# Altium footprint library mypcblib.PcbLib: 128 footprints (part 5 of 8)
Each footprint in its own frame and in the unit in brackets; x right, y up, seen from the top. Pads: shape width x height; smd on the part's side, far side on the other; paste and mask are expansions set on the pad; w line width, h text height; cw(c..) or ccw(c..) is an arc to the next point about the centre after c.
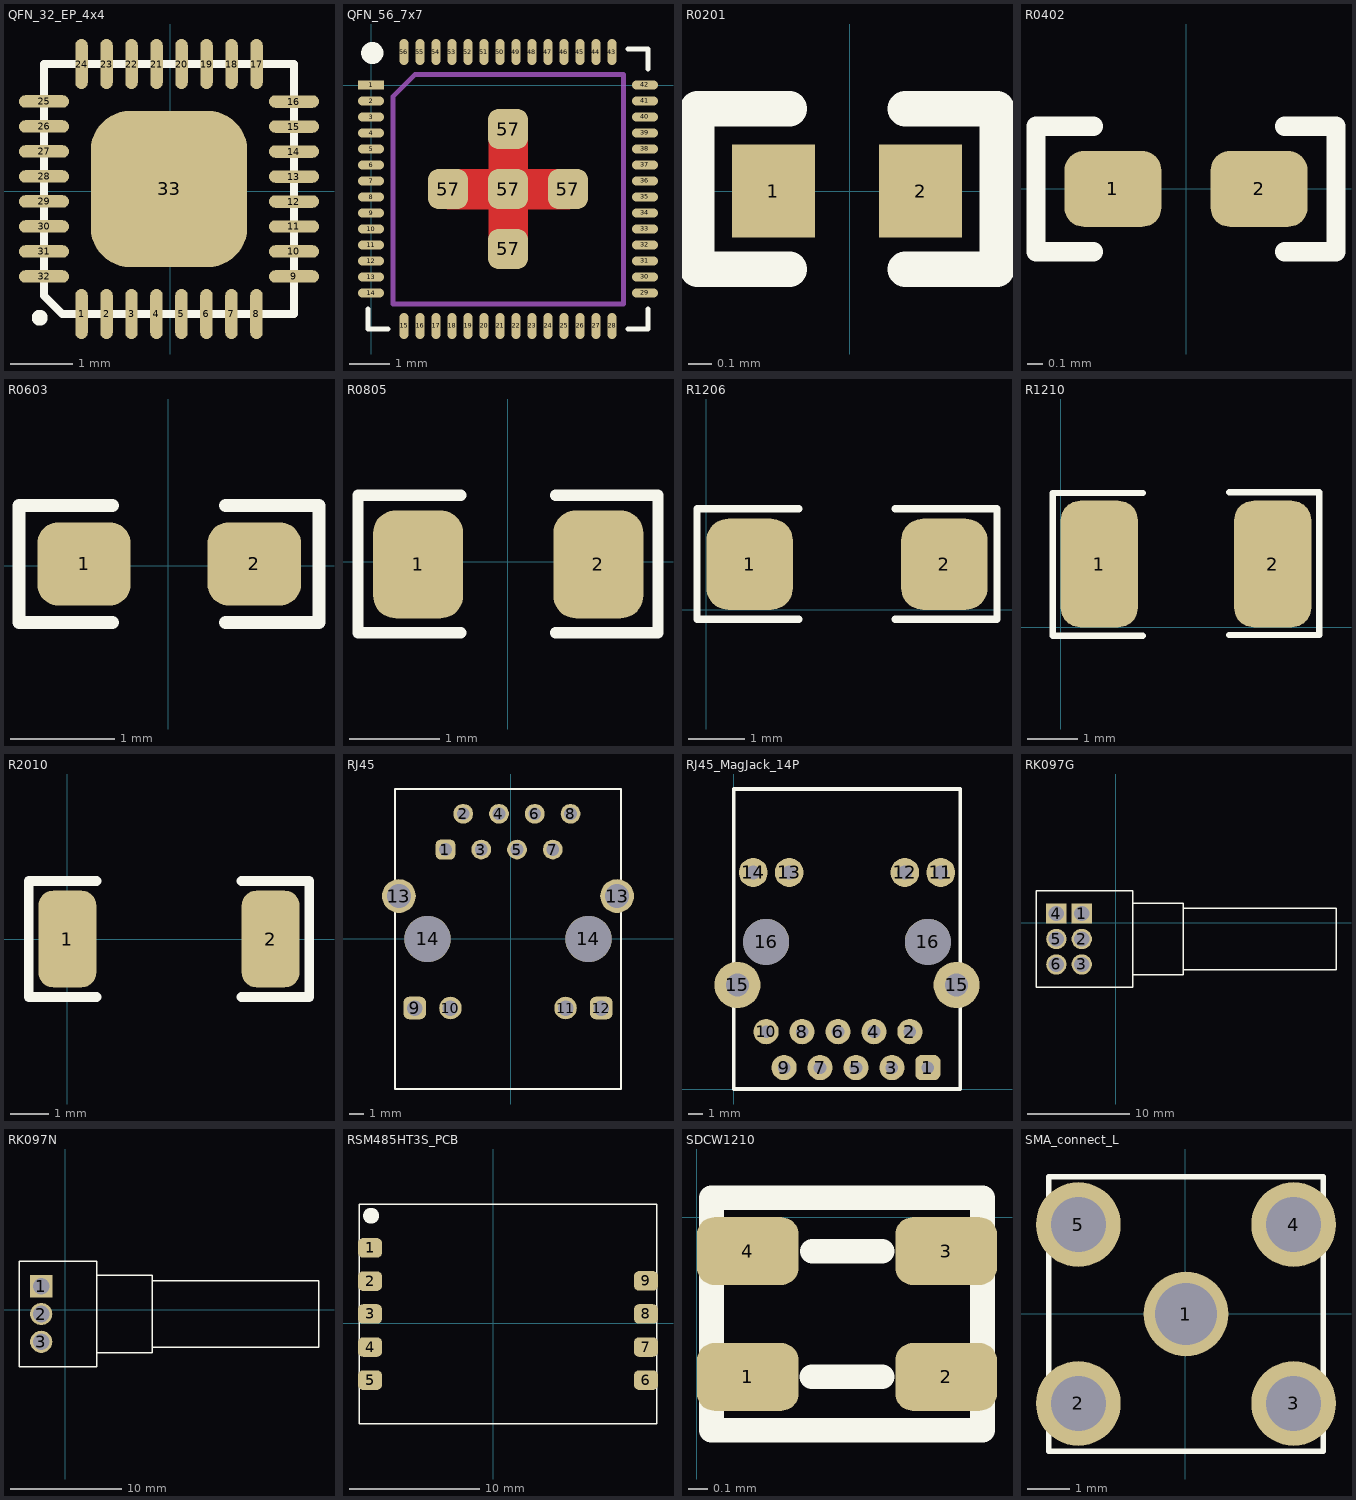
[diagram p4: the footprints below, top view; thin cyan lines are the x and y axes]

## QFN_32_EP_4x4 [mm]
pads (33):
  oval 0.2x0.8 smd mask+0.051: 1(-1.422,-1.96) 2(-1.022,-1.96) 3(-0.622,-1.96) 4(-0.222,-1.96) 5(0.178,-1.96) 6(0.578,-1.96) 7(0.978,-1.96) 8(1.378,-1.96) 17(1.378,2.04) 18(0.978,2.04) 19(0.578,2.04) 20(0.178,2.04) 21(-0.222,2.04) 22(-0.622,2.04) 23(-1.022,2.04) 24(-1.422,2.04)
  oval 0.8x0.2 smd mask+0.051: 9(1.978,-1.36) 10(1.978,-0.96) 11(1.978,-0.56) 12(1.978,-0.16) 13(1.978,0.24) 14(1.978,0.64) 15(1.978,1.04) 16(1.978,1.44) 25(-2.022,1.44) 26(-2.022,1.04) 27(-2.022,0.64) 28(-2.022,0.24) 29(-2.022,-0.16) 30(-2.022,-0.56) 31(-2.022,-0.96) 32(-2.022,-1.36)
  rrect50% 2.5x2.5 smd mask+0.127: 33(-0.022,0.04)
Top Overlay:
  circle w0.127: c-2.09,-2.02 r0.064
  lines w0.127: -2.022,-1.668 -1.73,-1.96 1.978,-1.96 1.978,2.04 -2.022,2.04 -2.022,-1.668

## QFN_56_7x7 [mm]
pads (61):
  rect 0.65x0.22 smd mask+0.051: 1(0,0)
  oval 0.65x0.22 smd mask+0.051: 2(0,-0.4) 3(0,-0.8) 4(0,-1.2) 5(0,-1.6) 6(0,-2) 7(0,-2.4) 8(0,-2.8) 9(0,-3.2) 10(0,-3.6) 11(0,-4) 12(0,-4.4) 13(0,-4.8) 14(0,-5.2) 29(6.85,-5.2) 30(6.85,-4.8) 31(6.85,-4.4) 32(6.85,-4) 33(6.85,-3.6) 34(6.85,-3.2) 35(6.85,-2.8) 36(6.85,-2.4) 37(6.85,-2) 38(6.85,-1.6) 39(6.85,-1.2) 40(6.85,-0.8) 41(6.85,-0.4) 42(6.85,0)
  oval 0.22x0.65 smd mask+0.051: 15(0.825,-6.025) 16(1.225,-6.025) 17(1.625,-6.025) 18(2.025,-6.025) 19(2.425,-6.025) 20(2.825,-6.025) 21(3.225,-6.025) 22(3.625,-6.025) 23(4.025,-6.025) 24(4.425,-6.025) 25(4.825,-6.025) 26(5.225,-6.025) 27(5.625,-6.025) 28(6.025,-6.025) 43(6.025,0.825) 44(5.625,0.825) 45(5.225,0.825) 46(4.825,0.825) 47(4.425,0.825) 48(4.025,0.825) 49(3.625,0.825) 50(3.225,0.825) 51(2.825,0.825) 52(2.425,0.825) 53(2.025,0.825) 54(1.625,0.825) 55(1.225,0.825) 56(0.825,0.825)
  rrect50% 1x1 smd mask+0.152: 57(1.925,-2.6) 57(3.425,-4.1) 57(3.425,-2.6) 57(3.425,-1.1) 57(4.925,-2.6)
Top Layer:
  rectangle: 1.891,-3.112 4.99,-2.096
  rectangle: 2.932,-4.128 3.923,-1.004
Top Overlay:
  circle w0.3: c0.032,0.8 r0.127
  lines w0.127: -0.075,-5.6 -0.075,-6.1 0.425,-6.1 ; 6.425,-6.1 6.925,-6.1 6.925,-5.6 ; 6.425,0.9 6.925,0.9 6.925,0.4
Mechanical 1:
  lines w0.127: 0.545,-5.474 6.311,-5.474 6.311,0.266 1.104,0.266 0.545,-0.292 0.545,-5.474

## R0201 [mm]
pads (2):
  rect 0.36x0.4 smd mask+0.051: 1(-0.33,0) 2(0.305,0)
Top Overlay:
  lines w0.152: -0.261,-0.338 -0.66,-0.338 -0.66,0.356 -0.261,0.356 ; 0.239,-0.338 0.635,-0.338 0.635,0.356 0.239,0.356
3D body "User Library-RES_0603-0201.STEP": height 0.34, standoff 0, extent -0.351,-0.173 0.329,0.157

## R0402 [mm]
pads (2):
  rrect50% 0.64x0.5 smd: 1(-0.483,0) 2(0.483,0)
Top Overlay:
  lines w0.127: -0.61,-0.415 -0.991,-0.415 -0.991,0.415 -0.61,0.415 ; 0.65,-0.415 0.991,-0.415 0.991,0.415 0.65,0.415
3D body "User Library-CR1005-0402.STEP": height 0.35, standoff 0, extent -0.5,-0.25 0.5,0.25

## R0603 [mm]
pads (2):
  rrect50% 0.9x0.8 smd: 1(-0.814,0.015) 2(0.826,0.015)
Top Overlay:
  lines w0.127: -0.54,-0.55 -1.44,-0.55 -1.44,0.58 -0.54,0.58 ; 0.55,-0.55 1.45,-0.55 1.45,0.58 0.55,0.58

## R0805 [mm]
pads (2):
  rrect50% 1x1.2 smd: 1(-0.993,-0.029) 2(1.007,-0.029)
Top Overlay:
  lines w0.127: -0.518,-0.79 -1.66,-0.79 -1.66,0.74 -0.518,0.74 ; 0.532,-0.79 1.67,-0.79 1.67,0.74 0.532,0.74

## R1206 [mm]
pads (2):
  rrect50% 1.52x1.6 smd: 1(0.76,0.8) 2(4.18,0.8)
Top Overlay:
  lines w0.127: 1.626,-0.165 -0.165,-0.165 -0.165,1.773 1.626,1.773 ; 3.315,-0.165 5.105,-0.165 5.105,1.773 3.315,1.773

## R1210 [mm] "1/4W"
pads (2):
  rrect50% 1.525x2.5 smd: 1(0.763,1.25) 2(4.187,1.25)
Top Overlay:
  lines w0.127: 1.623,-0.167 -0.155,-0.167 -0.155,2.652 1.623,2.652 ; 3.327,-0.152 5.105,-0.152 5.105,2.667 3.327,2.667

## R2010 [mm]
pads (2):
  rrect50% 1.52x2.54 smd: 1(0,0) 2(5.34,0)
Top Overlay:
  lines w0.254: 0.764,-1.524 -1.014,-1.524 -1.014,1.524 0.764,1.524 ; 4.574,-1.524 6.352,-1.524 6.352,1.524 4.574,1.524

## RJ45 [mm]
pads (16):
  rrect50% 1.4x1.4 hole 0.9: 1(-4.645,6.33)
  round 1.4 hole 0.9: 2(-3.385,8.87) 3(-2.105,6.33) 4(-0.845,8.87) 5(0.435,6.33) 6(1.695,8.87) 7(2.975,6.33) 8(4.235,8.87)
  rrect50% 1.6x1.6 hole 1.1: 9(-6.83,-4.92) 12(6.42,-4.92)
  round 1.6 hole 1.1: 10(-4.29,-4.92) 11(3.88,-4.92)
  round 2.4 hole 1.7: 13(-7.95,3.03) 13(7.54,3.03)
  round 3.3 hole 3.3: 14(-5.92,-0.02) 14(5.51,-0.02)
Top Overlay:
  lines w0.127: -8.225,-10.67 -8.225,10.63 7.815,10.63 7.815,-10.67 -8.225,-10.67

## RJ45_MagJack_14P [mm]
pads (18):
  rrect50% 1.78x1.78 hole 0.89 mask+0.102: 1(13.715,1.51)
  round 1.78 hole 0.89 mask+0.102: 2(12.445,4.05) 3(11.175,1.51) 4(9.905,4.05) 5(8.635,1.51) 6(7.365,4.05) 7(6.095,1.51) 8(4.825,4.05) 9(3.555,1.51) 10(2.285,4.05)
  round 2.04 hole 1.02 mask+0.102: 11(14.625,15.3) 12(12.085,15.3) 13(3.915,15.3) 14(1.375,15.3)
  round 3.26 hole 1.63 mask+0.102: 15(0.255,7.35) 15(15.745,7.35)
  round 3.25 hole 3.25 mask+0.102: 16(2.285,10.4) 16(13.715,10.4)
Top Overlay:
  lines w0.254: 0,0 0,21.2 16,21.2 16,0 0,0

## RK097G [mm]
pads (6):
  rect 2x2 hole 1.5: 1(-3.336,0.913) 4(-5.836,0.913)
  round 2 hole 1.5: 2(-3.336,-1.587) 3(-3.336,-4.087) 5(-5.836,-1.587) 6(-5.836,-4.087)
Top Overlay:
  lines w0.127: -7.836,-6.337 -7.836,3.163 1.664,3.163 1.664,-6.337 -7.836,-6.337 ; 1.664,-5.087 1.664,1.913 6.664,1.913 6.664,-5.087 1.664,-5.087 ; 6.664,-4.587 6.664,1.413 21.664,1.413 21.664,-4.587 6.664,-4.587

## RK097N [mm]
pads (3):
  rect 2x2 hole 1.5: 1(-2.142,2.107)
  round 2 hole 1.5: 2(-2.142,-0.393) 3(-2.142,-2.893)
Top Overlay:
  lines w0.127: -4.142,-5.143 -4.142,4.357 2.858,4.357 2.858,-5.143 -4.142,-5.143 ; 2.858,-3.893 2.858,3.107 7.858,3.107 7.858,-3.893 2.858,-3.893 ; 7.858,-3.393 7.858,2.606 22.858,2.606 22.858,-3.393 7.858,-3.393

## RSM485HT3S_PCB [mm]
pads (9):
  rrect50% 1.85x1.5 smd: 1(-9.46,5.79) 2(-9.46,3.24) 3(-9.46,0.71) 4(-9.46,-1.83) 5(-9.46,-4.37) 6(11.76,-4.37) 7(11.76,-1.83) 8(11.76,0.71) 9(11.76,3.25)
Top Overlay:
  circle w1: c-9.38,8.27 r0.106
  lines w0.127: -10.281,-5.221 -10.281,-3.521 -10.281,-0.981 -10.281,-2.681 ; -10.281,-0.141 -10.281,1.559 ; -10.281,2.399 -10.281,4.099 ; -10.281,4.939 -10.281,6.639 ; 12.579,-5.221 12.579,-3.521 ; 12.579,-2.681 12.579,-0.981 ; 12.579,-0.141 12.579,1.559 ; 12.579,2.399 12.579,4.099 ; 12.579,4.939 12.579,6.639 ; -10.281,-7.741 12.579,-7.741 12.579,9.159 -10.281,9.159 -10.281,-7.741

## SDCW1210 [mm]
pads (4):
  rrect50% 0.525x0.35 smd: 1(0.263,-0.825) 2(1.288,-0.825) 3(1.288,-0.175) 4(0.263,-0.175)
Top Overlay:
  lines w0.127: 0.594,-0.824 0.956,-0.825 ; 0.596,-0.175 0.957,-0.175 ; 0.075,-1.1 0.075,0.1 1.475,0.1 1.475,-1.1 0.075,-1.1

## SMA_connect_L [mm]
pads (5):
  round 2 hole 1.47: 1(0.02,-0.01)
  round 2 hole 1.3: 2(-2.52,-2.121) 3(2.56,-2.121) 4(2.56,2.101) 5(-2.52,2.101)
Top Overlay:
  lines w0.127: -3.22,-3.25 3.26,-3.25 3.26,3.23 -3.22,3.23 -3.22,-3.25